# EAGLE library part DRV8825_STEPPER_MOTOR_DRIVER_CARRIER (library BartendingRobot)
Stepper motor controler; IC: DRV8825; 1.5A; Uin mot: 8.2÷45V
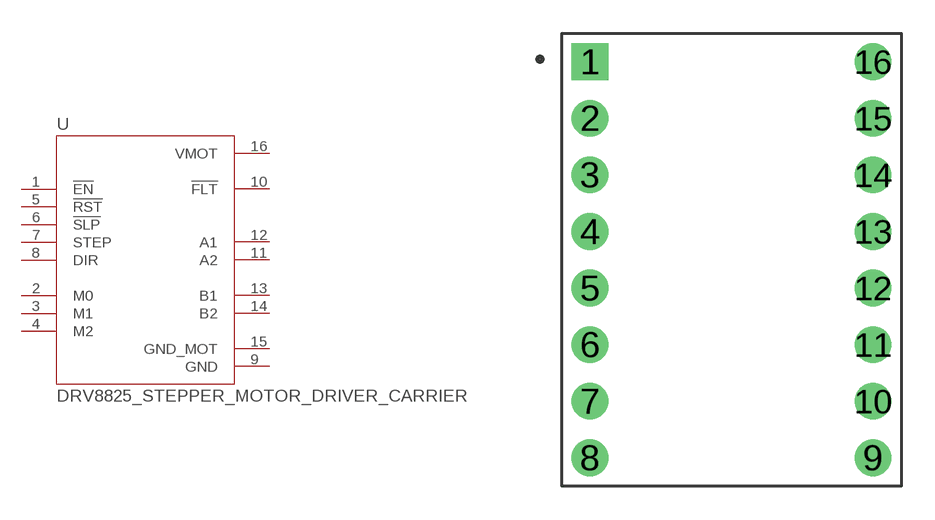
[diagram p0: symbol with the pads of IC_DRV8825_STEPPER_MOTOR_DRIVER_CARRIER; footprint IC_DRV8825_STEPPER_MOTOR_DRIVER_CARRIER]

Designator prefix U

## DRV8825_STEPPER_MOTOR_DRIVER_CARRIER (AVAILABILITY: Unavailable; DESCRIPTION: Stepper motor controler; IC: DRV8825; 1.5A; Uin mot: 8.2÷45V; MF: Pololu; MP: DRV8825 STEPPER MOTOR DRIVER CARRIER; PACKAGE: None; PRICE: None)  [IC_DRV8825_STEPPER_MOTOR_DRIVER_CARRIER]
1  !EN  in
2  M0  in
3  M1  in
4  M2  in
5  !RST  in
6  !SLP  in
7  STEP  in
8  DIR  in
9  GND  pwr
10  !FLT  out
11  A2  out
12  A1  out
13  B1  out
14  B2  out
15  GND_MOT  pwr
16  VMOT  pwr

## Footprint IC_DRV8825_STEPPER_MOTOR_DRIVER_CARRIER (pad centres in mm)
drill 1.1 square: 1 -6.35,8.89
drill 1.1: 2 -6.35,6.35; 3 -6.35,3.81; 4 -6.35,1.27; 5 -6.35,-1.27; 6 -6.35,-3.81; 7 -6.35,-6.35; 8 -6.35,-8.89; 9 6.35,-8.89; 10 6.35,-6.35; 11 6.35,-3.81; 12 6.35,-1.27; 13 6.35,1.27; 14 6.35,3.81; 15 6.35,6.35; 16 6.35,8.89